# Altium schematic symbol library Schlib1.SchLib: 10 symbols
Pins are listed as number, name and electrical type; pins without a type are passive.

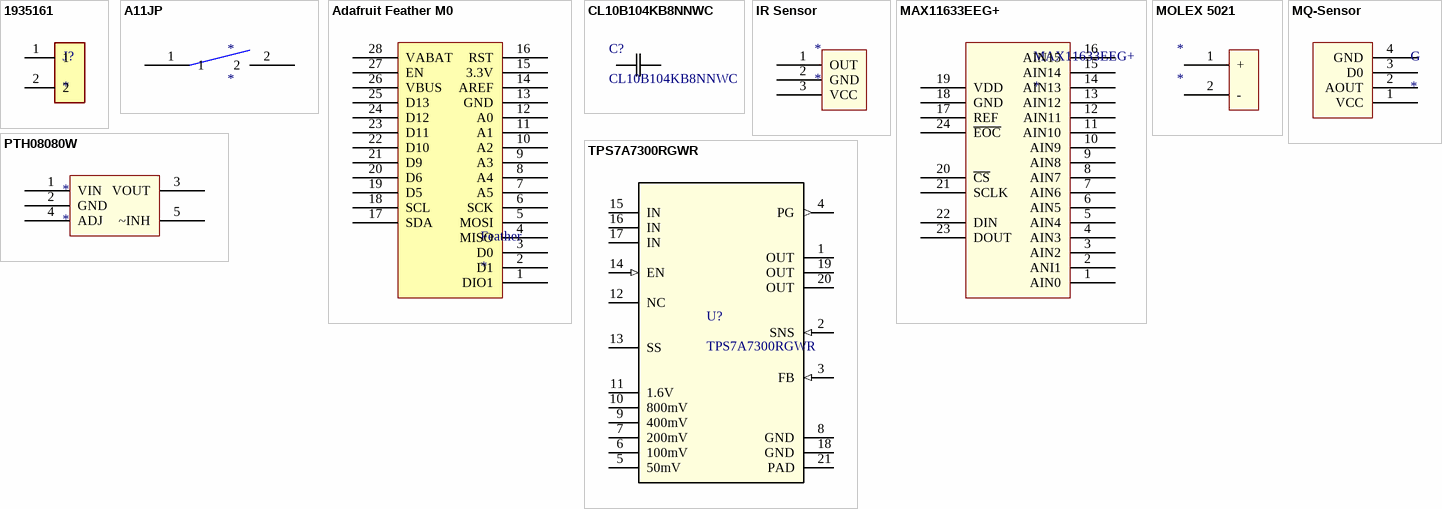
[diagram p0: symbols 1935161 to TPS7A7300RGWR]

## 1935161
designator J?
2 Position Wire to Board Terminal Block Horizontal with Board 0.197 (5.00mm) Through Hole; MF: Phoenix Contact; MP: 1935161; Purchase-URL: https://pricing.snapeda.com/search/part/1935161/?ref=eda; Package: None; Availability: In Stock; Value: *; Check_prices: https://www.snapeda.com/parts/1935161/Phoenix+Contact/view-part/?ref=eda; SnapEDA_Link: https://www.snapeda.com/parts/1935161/Phoenix+Contact/view-part/?ref=snap; Price: None
footprint PHOENIX_1935161
pins: 1, 2

## A11JP
designator *
pins: 1, 2

## Adafruit Feather M0
designator Feather  (no BOM)
Adafruit Feather m0
footprint MODULE_FEATHER_M0_BASIC_PROTO
pins: 1 DIO1, 2 D1, 3 D0, 4 MISO, 5 MOSI, 6 SCK, 7 A5, 8 A4, 9 A3, 10 A2, 11 A1, 12 A0, 13 GND, 14 AREF, 15 3.3V, 16 RST, 17 SDA "DI02", 18 SCL, 19 D5, 20 D6, 21 D9, 22 D10, 23 D11, 24 D12, 25 D13, 26 VBUS, 27 EN, 28 VABAT

## CL10B104KB8NNWC
designator C?
No Description Available; Mfr_Name: Samsung; Type: DEV; Copyright: Copyright (C) 2023 Ultra Librarian. All rights reserved.; Manufacturer_Part_Number: CL10B104KB8NNWC; RefDes: RefDes
footprint CAP_CL10_SAM
pins: 1, 2

## IR Sensor
designator *
footprint IR sensor
pins: 1 OUT, 2 GND, 3 VCC

## MAX11633EEG+
designator MAX11633EEG+
MAX11633EEG+
footprint QSOP24
pins: 1 AIN0, 2 ANI1, 3 AIN2, 4 AIN3, 5 AIN4, 6 AIN5, 7 AIN6, 8 AIN7, 9 AIN8, 10 AIN9, 11 AIN10, 12 AIN11, 13 AIN12, 14 AIN13, 15 AIN14, 16 AIN15, 17 REF, 18 GND, 19 VDD, 20 ~{CS}, 21 SCLK, 22 DIN, 23 DOUT, 24 ~{EOC}

## MOLEX 5021
designator *
footprint Molex 5021
pins: 1 +, 2 -

## MQ-Sensor
designator G
pins: 1 VCC, 2 AOUT, 3 D0, 4 GND

## PTH08080W
designator *
footprint EUG5
pins: 1 VIN, 2 GND, 3 VOUT, 4 ADJ, 5 ~INH

## TPS7A7300RGWR
designator U?
No Description Available; Mfr_Name: Texas Instruments; CompType: IC; Type: DEV; RefDes: RefDes; Copyright: Copyright (C) 2023 Ultra Librarian. All rights reserved.; Manufacturer_Part_Number: TPS7A7300RGWR; PartNumber: TPS7A7300RGWR; PackageReference: RGW0020A; MountType: SMT; RoHS: Y; Manufacturer: Texas Instruments
footprint RGW0020A
pins: 1 OUT (power), 2 SNS (in), 3 FB (in), 4 PG (out), 5 50mV, 6 100mV, 7 200mV, 8 GND (power), 9 400mV, 10 800mV, 11 1.6V, 12 NC, 13 SS, 14 EN (in), 15 IN (power), 16 IN (power), 17 IN (power), 18 GND (power), 19 OUT (power), 20 OUT (power), 21 PAD